# EAGLE library part APC220 (library MiiLib)
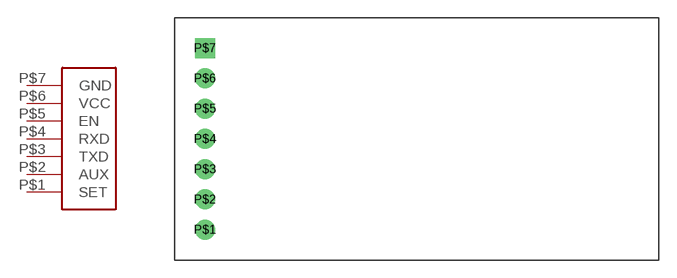
[diagram p0: symbol with the pads of APC220; footprint APC220]

Designator prefix -

## APC220  [APC220]
P$1  SET
P$2  AUX
P$3  TXD
P$4  RXD
P$5  EN
P$6  VCC
P$7  GND

## Footprint APC220 (pad centres in mm)
drill 1 pad 1.676: P$1 0,0; P$2 0,2.54; P$3 0,5.08; P$4 0,7.62; P$5 0,10.16; P$6 0,12.7
drill 1 pad 1.676 square: P$7 0,15.24